# EAGLE library part CON_02X10 (library PP_Connectors)
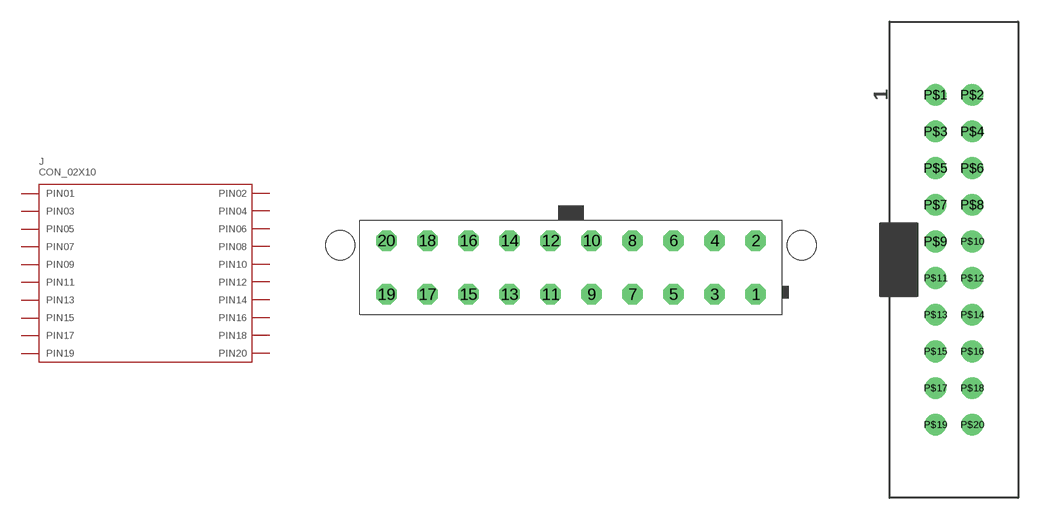
[diagram p6: symbol with the pads of 39-29-9202; footprints 39-29-9202, 1761681-7]

Designator prefix J

## CON_02X10_39-29-9202 (POPULATE: 1)  [39-29-9202]
1  1
2  2
3  3
4  4
5  5
6  6
7  7
8  8
9  9
10  10
11  11
12  12
13  13
14  14
15  15
16  16
17  17
18  18
19  19
20  20

## CON_02X10_1761681-7  [1761681-7]
P$1  1
P$2  2
P$3  3
P$4  4
P$5  5
P$6  6
P$7  7
P$8  8
P$9  9
P$10  10
P$11  11
P$12  12
P$13  13
P$14  14
P$15  15
P$16  16
P$17  17
P$18  18
P$19  19
P$20  20

## Footprint 39-29-9202 (pad centres in mm)
drill 1.4 octagon: 1 18.9,-2.75; 2 18.9,2.75; 3 14.7,-2.75; 4 14.7,2.75; 5 10.5,-2.75; 6 10.5,2.75; 7 6.3,-2.75; 8 6.3,2.75; 9 2.1,-2.75; 10 2.1,2.75; 11 -2.1,-2.75; 12 -2.1,2.75; 13 -6.3,-2.75; 14 -6.3,2.75; 15 -10.5,-2.75; 16 -10.5,2.75; 17 -14.7,-2.75; 18 -14.7,2.75; 19 -18.9,-2.75; 20 -18.9,2.75
hole 3 at -23.6,2.29
hole 3 at 23.6,2.29

## Footprint 1761681-7 (pad centres in mm)
drill 1: P$1 -1.27,11.43; P$2 1.27,11.43; P$3 -1.27,8.89; P$4 1.27,8.89; P$5 -1.27,6.35; P$6 1.27,6.35; P$7 -1.27,3.81; P$8 1.27,3.81; P$9 -1.27,1.27; P$10 1.27,1.27; P$11 -1.27,-1.27; P$12 1.27,-1.27; P$13 -1.27,-3.81; P$14 1.27,-3.81; P$15 -1.27,-6.35; P$16 1.27,-6.35; P$17 -1.27,-8.89; P$18 1.27,-8.89; P$19 -1.27,-11.43; P$20 1.27,-11.43